# Altium schematic symbol library FERRITE_BEAD.SchLib: 1 symbol
Pins are listed as number, name and electrical type; pins without a type are passive.

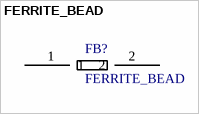
[diagram p0: symbol FERRITE_BEAD]

## FERRITE_BEAD
designator FB?
Ferrite bead symbol
pins: 1, 2